# Altium integrated library RF-Bluetooth.IntLib: 1 symbol
Pins are listed as number, name and electrical type; pins without a type are passive.

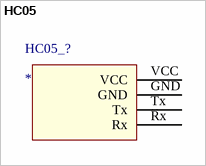
[diagram p0: symbol HC05]

## HC05
designator HC05_?
footprint HC05
pins: GND, Rx, Tx, VCC